# Altium footprint library IMU 10DOF.PcbLib: 2 footprints
Each footprint in its own frame and in the unit in brackets; x right, y up, seen from the top. Pads: shape width x height; smd on the part's side, far side on the other; paste and mask are expansions set on the pad; w line width, h text height; cw(c..) or ccw(c..) is an arc to the next point about the centre after c.
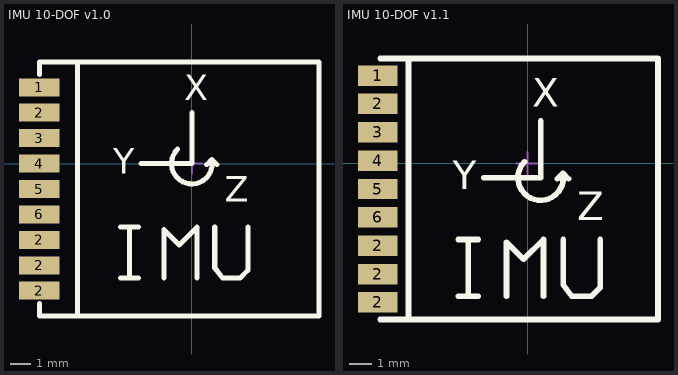
[diagram p0: the footprints below, top view; thin cyan lines are the x and y axes]

## IMU 10-DOF v1.0 [mil]
pads (9):
  rect 80x35.43 smd: 1(-300,150) 2(-300,-250) 2(-300,-200) 2(-300,-150) 2(-300,100) 3(-300,50) 4(-300,0) 5(-300,-50) 6(-300,-100)
Top Overlay:
  lines w10: -300,-275 -300,-300 250,-300 250,200 -300,200 -300,175 ; -225,-300 -225,200 ; -140,-225 -105,-225 ; -140,-125 -105,-125 ; -122.5,-225 -122.5,-125 ; -100,0 0,0 0,100 ; -55,-225 -55,-130 -25,-160 10,-125 10,-225 ; -28.28,28.28 ccw(c0,0) 39.22,7.84 ; 29.22,-2.16 39.22,7.84 ; 45,-125 45,-205 60,-225 95,-225 110,-210 110,-125 ; 49.22,-2.16 39.22,7.84
  text "Z" at 65,-75 h50
  text "Y" at -155,-20 h50
  text "X" at -15,125 h50
Mechanical 15:
  lines w3.94: -19.68,0 19.69,0 -19.69,0 ; 0,-19.68 0,19.69 0,-19.69
3D body: height 75.06, standoff 0.6, extent -300,-300 250,200

## IMU 10-DOF v1.1 [mil]
pads (9):
  rect 70x36 smd: 1(-264,155) 2(-264,-245) 2(-264,-195) 2(-264,-145) 2(-264,105) 3(-264,55) 4(-264,5) 5(-264,-45) 6(-264,-95)
Top Overlay:
  lines w10: -260,-275 230,-275 230,185 -260,185 ; -210,-275 -210,185 ; -122,-234 -87,-234 ; -122,-134 -87,-134 ; -104.5,-234 -104.5,-134 ; -77,-25 23,-25 23,75 ; -37,-234 -37,-139 -7,-169 28,-134 28,-234 ; -5.28,3.28 ccw(c23,-25) 62.22,-17.16 ; 52.22,-27.16 62.22,-17.16 ; 63,-134 63,-214 78,-234 113,-234 128,-219 128,-134 ; 72.22,-27.16 62.22,-17.16
  text "Z" at 88,-100 h50
  text "Y" at -132,-45 h50
  text "X" at 8,100 h50
Mechanical 15:
  lines w3.94: -19.69,0 19.68,0 ; 0,-19.69 0,19.68
3D body: height 75.06, standoff 0.6, extent -299.99,-275 230.01,185